# EAGLE library part DMC2400UV (library fets)
COMPLEMENTARY PAIR ENHANCEMENT MODE MOSFET
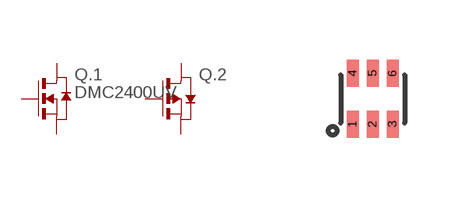
[diagram p3: symbol with the pads of SOT563; footprint SOT563]

Designator prefix Q; gates .1=N_MOSFET .2=P_MOSFET

## DMC2400UV (DIGIKEY: DMC2400UV-13DICT-ND; MANUFACTURER: Diodes Incorporated; MPN: DMC2400UV-13)  [SOT563]
1  .1:S  pas
2  .1:G  pas
3  .2:D  pas
4  .1:D  pas
5  .2:G  pas
6  .2:S  pas

## Footprint SOT563 (pad centres in mm)
smd 0.3 x 0.67: 1 -0.5,-0.635; 2 0,-0.635; 3 0.5,-0.635; 4 -0.5,0.635; 5 0,0.635; 6 0.5,0.635